# EAGLE library part SCA103T (library murata-sensor)
DIFFERENTIAL INCLINOMETER
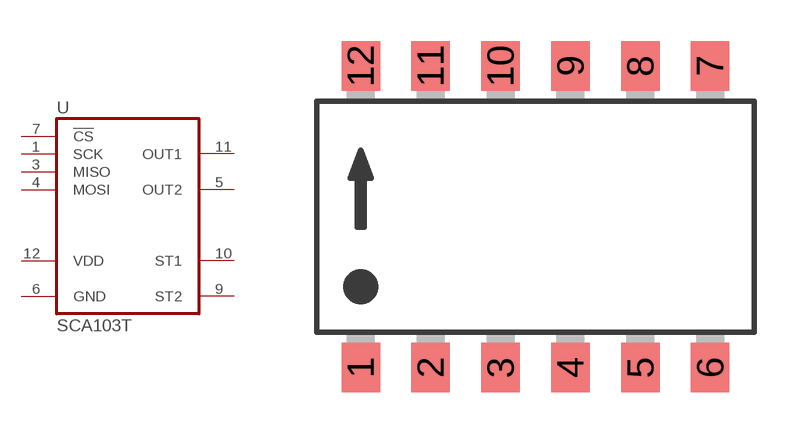
[diagram p0: symbol with the pads of SMD-12; footprint SMD-12]

Designator prefix U

## SCA103T  [SMD-12]
1  SCK  in
3  MISO  out
4  MOSI  in
5  OUT2
6  GND  pwr
7  !CS!  in
9  ST2
10  ST1
11  OUT1  out
12  VDD  pwr

## Footprint SMD-12 (pad centres in mm)
12-SMD
smd 1.4 x 1.8: 1 -6.35,-5.48; 2 -3.81,-5.48; 3 -1.27,-5.48; 4 1.27,-5.48; 5 3.81,-5.48; 6 6.35,-5.48; 7 6.35,5.48; 8 3.81,5.48; 9 1.27,5.48; 10 -1.27,5.48; 11 -3.81,5.48; 12 -6.35,5.48